# Altium integrated library ST Digital Filter.IntLib: 1 symbol
Pins are listed as number, name and electrical type; pins without a type are passive.

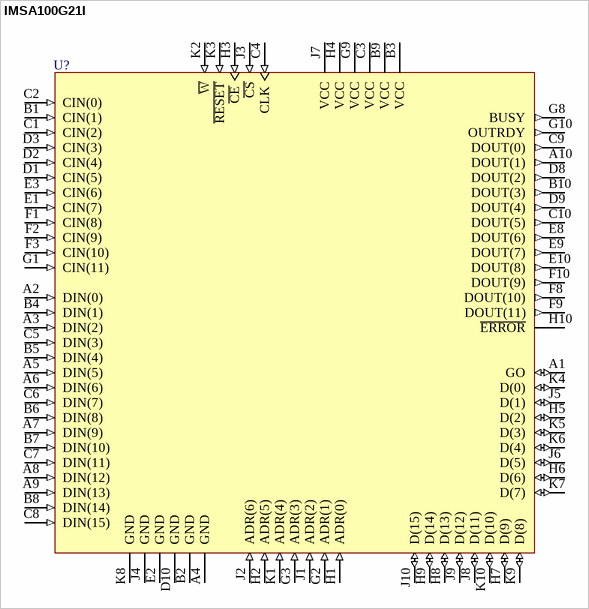
[diagram p0: symbol IMSA100G21I]

## IMSA100G21I
designator U?
Cascadable Signal Processor; Published: 24-Aug-2001; LatestRevisionDate: 06-Jun-2005; LatestRevisionNote: Stylized 3D Model Added.; DatasheetVersion: Jul-1992; PackageVersion: 1994; PackageReference: PGA84; Publisher: Altium Limited; PackageDescription: 84-Pin Pin Grid Array 2.54 mm Pitch; ComponentLink1Description: Manufacturer Link; ComponentLink1URL: http://www.st.com/
footprint PGA84 (PGA, 84-Leads, Body 27x27mm, Pitch 2.54mm)
3D model IMSA100-PGA84 (84-Pin Pin Grid Array 2.54 mm Pitch)
pins: A1 GO (io), A2 DIN(0) (in), A3 DIN(2) (in), A4 GND (power), A5 DIN(5) (in), A6 DIN(6) (in), A7 DIN(9) (in), A8 DIN(12) (in), A9 DIN(13) (in), A10 DOUT(1) (out), B1 CIN(1) (in), B2 GND (power), B3 VCC (power), B4 DIN(1) (in), B5 DIN(4) (in), B6 DIN(8) (in), B7 DIN(10) (in), B8 DIN(14) (in), B9 VCC (power), B10 DOUT(3) (out), C1 CIN(2) (in), C2 CIN(0) (in), C3 VCC (power), C4 CLK (in), C5 DIN(3) (in), C6 DIN(7) (in), C7 DIN(11) (in), C8 DIN(15) (in), C9 DOUT(0) (out), C10 DOUT(5) (out), D1 CIN(5) (in), D2 CIN(4) (in), D3 CIN(3) (in), D8 DOUT(2) (out), D9 DOUT(4) (out), D10 GND (power), E1 CIN(7) (in), E2 GND (power), E3 CIN(6) (in), E8 DOUT(6) (out), E9 DOUT(7) (out), E10 DOUT(8) (out), F1 CIN(8) (in), F2 CIN(9) (in), F3 CIN(10) (in), F8 DOUT(10) (out), F9 DOUT(11) (out), F10 DOUT(9) (out), G1 CIN(11) (in), G2 ADR(1) (in), G3 ADR(3) (in), G8 BUSY (out), G9 VCC (power), G10 OUTRDY (out), H1 ADR(0) (in), H2 ADR(5) (in), H3 ~{CE} (in), H4 VCC (power), H5 D(2) (io), H6 D(6) (io), H7 D(9) (io), H8 D(13) (io), H9 D(14) (io), H10 ~{ERROR} (oc), J1 ADR(2) (in), J2 ADR(6) (in), J3 ~{CS} (in), J4 GND (power), J5 D(1) (io), J6 D(5) (io), J7 VCC (power), J8 D(11) (io), J9 D(12) (io), J10 D(15) (io), K1 ADR(4) (in), K2 ~{W} (in), K3 ~{RESET} (in), K4 D(0) (io), K5 D(3) (io), K6 D(4) (io), K7 D(7) (io), K8 GND (power), K9 D(8) (io), K10 D(10) (io)